# Altium schematic symbol library cp2112_f03_gm.SchLib: 1 symbol
Pins are listed as number, name and electrical type; pins without a type are passive.

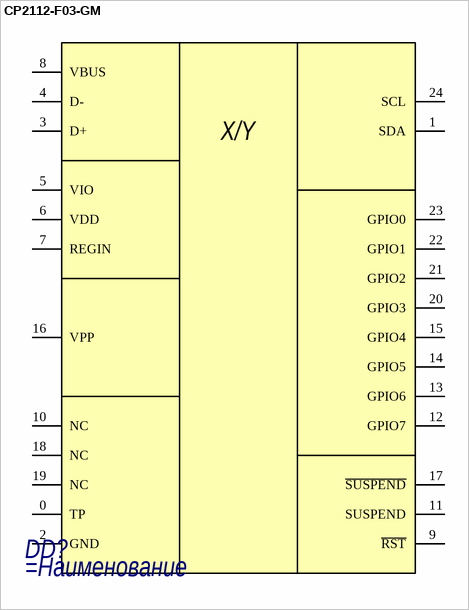
[diagram p0: symbol CP2112-F03-GM]

## CP2112-F03-GM
designator DD?
=Описание
pins: 0 TP, 1 SDA, 2 GND, 3 D+, 4 D-, 5 VIO, 6 VDD, 7 REGIN, 8 VBUS, 9 ~{RST}, 10 NC, 11 SUSPEND, 12 GPIO7, 13 GPIO6, 14 GPIO5, 15 GPIO4, 16 VPP, 17 ~{SUSPEND}, 18 NC, 19 NC, 20 GPIO3, 21 GPIO2, 22 GPIO1, 23 GPIO0, 24 SCL
text: X/Y